# EAGLE library part SN74HCT08DR (library CMWC-Product)
Quadruple 2-Input Positive-AND Gates 14-SOIC -40 to 85
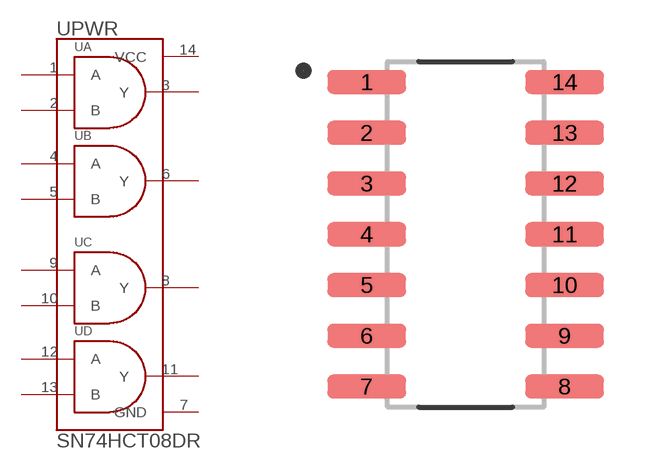
[diagram p2: symbol with the pads of SOIC127P600X175-14N; footprint SOIC127P600X175-14N]

Designator prefix U; gates A=SN74HCT08DR_GATE B=SN74HCT08DR_GATE C=SN74HCT08DR_GATE D=SN74HCT08DR_GATE PWR=SN74HCT08DR_PWR

## SN74HCT08DR (DIGI-KEY_PART_NUMBER: 296-14862-1-ND; MF: Texas Instruments; MP: SN74HCT08DR; PACKAGE: SOIC-14 Texas Instruments; PURCHASE-URL: https://pricing.snapeda.com/search/part/SN74HCT08DR/?ref=eda)  [SOIC127P600X175-14N]
1  A:A  in
2  A:B  in
3  A:Y  out
4  B:A  in
5  B:B  in
6  B:Y  out
7  PWR:GND
8  C:Y  out
9  C:A  in
10  C:B  in
11  D:Y  out
12  D:A  in
13  D:B  in
14  PWR:VCC

## Footprint SOIC127P600X175-14N (pad centres in mm)
smd 1.97 x 0.6: 1 -2.475,3.81; 2 -2.475,2.54; 3 -2.475,1.27; 4 -2.475,0; 5 -2.475,-1.27; 6 -2.475,-2.54; 7 -2.475,-3.81; 8 2.475,-3.81; 9 2.475,-2.54; 10 2.475,-1.27; 11 2.475,0; 12 2.475,1.27; 13 2.475,2.54; 14 2.475,3.81